# Altium schematic symbol library Schlib1.SchLib: 14 symbols
Pins are listed as number, name and electrical type; pins without a type are passive.

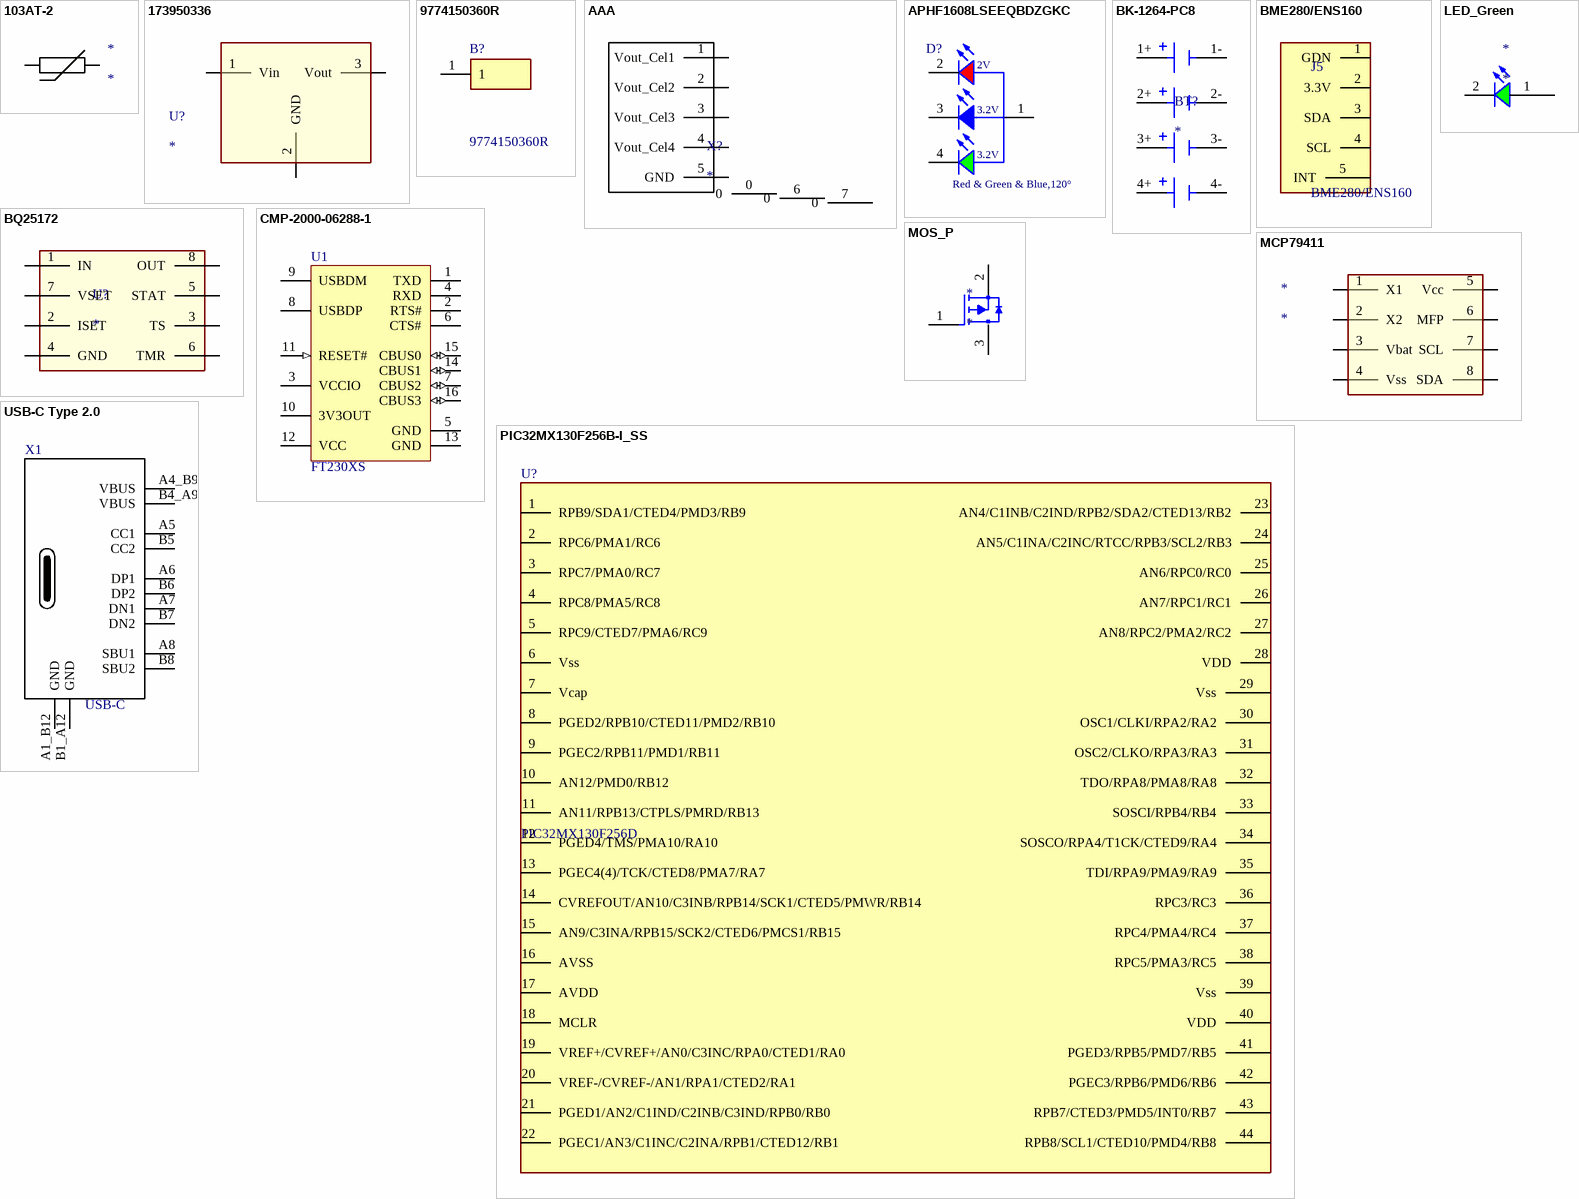
[diagram p0: symbols 103AT-2 to USB-C Type 2.0]

## 103AT-2
designator *
pins: 1 0, 2 0

## 173950336
designator U?
DC DC CONVERTER 3.3V
pins: 1 Vin, 2 GND, 3 Vout

## 9774150360R
designator B?
Round Standoff Threaded M3x0.5 Steel 0.591" (15.00mm); Manufacturer_Name: Wurth Elektronik; Geometry.Height: 15.1mm; Mouser Part Number: 710-9774150360R; Mouser Price/Stock: https://www.mouser.co.uk/ProductDetail/Wurth-Elektronik/9774150360R?qs=wM4AZDOQ8I5QNxLnJ7BYbw%3D%3D; Manufacturer_Part_Number: 9774150360R; Datasheet Link: https://www.we-online.com/katalog/datasheet/9774150360R.pdf
footprint 9774150360R
pins: 1

## AAA
designator X?
Connecteur pour support pile
pins: 0, 1 Vout_Cel1, 2 Vout_Cel2, 3 Vout_Cel3, 4 Vout_Cel4, 5 GND, 6 0, 7 0

## APHF1608LSEEQBDZGKC
designator D?, comment Red & Green & Blue,120°
DEL standard - CMS RGB 0603 SMD; Part Number: 150066M153000; Forward Voltage: 3.3 V@Blue, 3.3 V@Green, 2 V@Red; Peak Wavelength: 468 nm@Blue, 520 nm@Green, 632 nm@Red; Dominant Wavelength: 470 nm@Blue, 525 nm@Green, 624 nm@Red; Luminous Intensity: 180 mcd@Blue, 900 mcd@Green, 285 mcd@Red; ComponentLink1Description: Manufacturer; ComponentLink1URL: http://www.we-online.de; ComponentLink2Description: Datasheet; ComponentLink2URL: http://katalog.we-online.de/led/datasheet/150066M153000.pdf; Published Date: May 2018; Publisher: Wurth Elektronik; Size: 0606; Viewing Angle: 120°; Operating Temperature: -40 to 85 degC; Emitting Color: Red & Green & Blue; Mounting Technology: SMT
footprint 150066M153000
pins: 1, 2 RED, 3 BLUE, 4 GREEN
text: 2V; 3.2V

## BK-1264-PC8
designator BT?
Battery Holder (Open) AAA 4 Cell PC Pin; MP: BK-1264-PC8; Package: None; Price: None; Value: *; Availability: Unavailable
footprint BAT_BK-1264-PC8
pins: 1+, 1-, 2+, 2-, 3+, 3-, 4+, 4-

## BME280/ENS160
designator J5
CCS811 kit; Manufacturer_Name: Amphenol; Manufacturer_Part_Number: 68604-804HLF; Datasheet Link: https://componentsearchengine.com/Datasheets/1/68604-804HLF.pdf; Height: 12.39mm; Mouser2 Part Number: 649-68604-804HLF; Mouser2 Price/Stock: https://www.mouser.com/Search/Refine.aspx?Keyword=649-68604-804HLF
footprint SEN-14193
pins: 1 GDN, 2 3.3V, 3 SDA, 4 SCL, 5 INT

## BQ25172
designator U?
Linear Battery Charger for 1- to 6-Cell NiMH Batteries; ComponentLink1Description: Datasheet; ComponentLink1URL: https://www.ti.com/lit/ds/symlink/bq25172.pdf?ts=1723181325396&ref_url=https%253A%252F%252Fwww.ti.com%252Fproduct%252FBQ25172%253Fbm-verify%253DAAQAAAAJ_____wF_Ss5Mx06KPY5wuR_GF74KlZYjgF463_PIRlVM87DaDimX8hD-z5276A7B4TIBZX0NkuoKNaHBi_BIZQjDV1LkEa4XRsG8u1VR9BofVYTDsa9KgQteCP0sYfXOG9XXdaIOCU4KV78p5I1mhsmEOew16_50esNWIwSvDA3hHiIVf5i8-2P7KThDd6J7Jl4hgoO4l1TC-NrfqnpFAYdm-pJ9AU9Ln766c7PomkWTcyYO1H9qEKlA_yTBE6jjSW5w3O45YuJnRCFg0pGldNq3fYTHPtlSH1bEqJ5IycH_AYGXDBQnkfkbRS1wfv-ZE-mPqIHZclsKyH4WNfY1MM8vqArrSoJICNJdn9XZRI90A8FZbu-ed-N5SM80SaNCRuUgfrfBEdcsRTe5V1SxlZb-1CspPmd3
pins: 1 IN, 2 ISET, 3 TS, 4 GND, 5 STAT, 6 TMR, 7 VSET, 8 OUT

## CMP-2000-06288-1
designator U1, comment FT230XS
USB to Basic UART IC, 2.97 to 5.5 V, -40 to 85 degC, 16-Pin SSOP, RoHS; Manufacturer: FTDI; Data Rate: 3Mbaud; USB Standard: USB2.0; USB Type: Transceiver; No. of Pins: 16Pins; Supply Voltage Max: 5.5V; SVHC: NoSVHC(17-Dec-2015); Supply Voltage Min: 2.97V; MSL: MSL3-168hours; Datasheet Version: Rev. 1.4, 05/2016; Interface Case Style: SSOP; Datasheet URL: http://www.ftdichip.com/Support/Documents/DataSheets/ICs/DS_FT230X.pdf; Packaging: CutTape; Package Description: 16-Pin Shrink Small Outline Package Integrated Circuit, Body 4.9 x 3.9 mm, Pitch 0.635 mm; Operating Temperature Min: -40°C; Mounting Technology: SurfaceMount; Package Reference: SSOP-16; Manufacturer URL: http://www.ftdichip.com/; Product Range: -; Operating Temperature Max: 85°C; No. of Ports: -; Supplier: Digikey; Supplier Ref.: 768-1135-1-ND; Supplier min. qty: 1; Supplier unit price: 2.00; ComponentLink1Description: distributeur; ComponentLink1URL: https://www.mouser.ch/ProductDetail/FTDI/FT230XS-R?qs=Gp1Yz1mis3XyCLeYOseSng%3D%3D; ComponentLink2Description: Datasheet; ComponentLink2URL: https://www.mouser.ch/datasheet/2/163/DS_FT230X-5395.pdf
footprint FTDI-SSOP-16_L (SOP, 16-Leads, Body 5x4mm, Pitch 0.635mm, IPC High Density)
footprint FTDI-SSOP-16_M (SOP, 16-Leads, Body 5x4mm, Pitch 0.635mm, IPC Low Density)
footprint FTDI-SSOP-16_N (SOP, 16-Leads, Body 5x4mm, Pitch 0.635mm, IPC Medium Density)
pins: 1 TXD "Transmit Asynchronous Data Output.", 2 RTS# "Request to Send Control Output / Handshake Signal.", 3 VCCIO (power) "1V8 - 3V3 supply for the IO cells", 4 RXD "Receiving Asynchronous Data Input.", 5 GND (power) "0V Ground input.", 6 CTS# "Clear To Send Control Input / Handshake Signal.", 7 CBUS2 (io) "Configurable CBUS I/O Pin.", 8 USBDP "USB Data Signal Plus.", 9 USBDM "USB Data Signal Minus.", 10 3V3OUT (power) "3V3 output at 50mA. May be used to power VCCIO.", 11 RESET# (in) "Reset input (active low).", 12 VCC (power) "5 V (or 3V3) supply to IC", 13 GND (power) "0V Ground input.", 14 CBUS1 (io) "Configurable CBUS I/O Pin.", 15 CBUS0 (io) "Configurable CBUS I/O Pin.", 16 CBUS3 (io) "Configurable CBUS I/O Pin."

## LED_Green
designator *
pins: 1 0, 2

## MCP79411
designator *
RTC
pins: 1 X1, 2 X2, 3 Vbat, 4 Vss, 5 Vcc, 6 MFP, 7 SCL, 8 SDA

## MOS_P
designator *
pins: 1 G, 2 S, 3 D

## PIC32MX130F256B-I_SS
designator U?, comment PIC32MX130F256D
Integrated Circuit; Manufacturer_Name: Microchip; Manufacturer_Part_Number: PIC32MX130F256D-50I/PT; Datasheet Link: https://www.mouser.ch/datasheet/2/268/PIC32MX1XX2XX283644_PIN_Datasheet_DS60001168L-3443206.pdf; Height: 2mm; Mouser Part Number: 579-MX130F256D50IPT; Mouser Price/Stock: https://www.mouser.com/Search/Refine.aspx?Keyword=579-MX130F256BISS; RS Part Number: 8806720P; RS Price/Stock: http://uk.rs-online.com/web/p/products/8806720P
pins: 1 RPB9/SDA1/CTED4/PMD3/RB9, 2 RPC6/PMA1/RC6, 3 RPC7/PMA0/RC7, 4 RPC8/PMA5/RC8, 5 RPC9/CTED7/PMA6/RC9, 6 Vss, 7 Vcap, 8 PGED2/RPB10/CTED11/PMD2/RB10, 9 PGEC2/RPB11/PMD1/RB11, 10 AN12/PMD0/RB12, 11 AN11/RPB13/CTPLS/PMRD/RB13, 12 PGED4/TMS/PMA10/RA10, 13 PGEC4(4)/TCK/CTED8/PMA7/RA7, 14 CVREFOUT/AN10/C3INB/RPB14/SCK1/CTED5/PMWR/RB14, 15 AN9/C3INA/RPB15/SCK2/CTED6/PMCS1/RB15, 16 AVSS, 17 AVDD, 18 MCLR, 19 VREF+/CVREF+/AN0/C3INC/RPA0/CTED1/RA0, 20 VREF-/CVREF-/AN1/RPA1/CTED2/RA1, 21 PGED1/AN2/C1IND/C2INB/C3IND/RPB0/RB0, 22 PGEC1/AN3/C1INC/C2INA/RPB1/CTED12/RB1, 23 AN4/C1INB/C2IND/RPB2/SDA2/CTED13/RB2, 24 AN5/C1INA/C2INC/RTCC/RPB3/SCL2/RB3, 25 AN6/RPC0/RC0, 26 AN7/RPC1/RC1, 27 AN8/RPC2/PMA2/RC2, 28 VDD, 29 Vss, 30 OSC1/CLKI/RPA2/RA2, 31 OSC2/CLKO/RPA3/RA3, 32 TDO/RPA8/PMA8/RA8, 33 SOSCI/RPB4/RB4, 34 SOSCO/RPA4/T1CK/CTED9/RA4, 35 TDI/RPA9/PMA9/RA9, 36 RPC3/RC3, 37 RPC4/PMA4/RC4, 38 RPC5/PMA3/RC5, 39 Vss, 40 VDD, 41 PGED3/RPB5/PMD7/RB5, 42 PGEC3/RPB6/PMD6/RB6, 43 RPB7/CTED3/PMD5/INT0/RB7, 44 RPB8/SCL1/CTED10/PMD4/RB8

## USB-C Type 2.0
designator X1, comment USB-C
U262-161N-4BVC11; ComponentLink1Description: LCSC  C319148; ComponentLink1URL: https://lcsc.com/product-detail/USB-Connectors_XKB-Connectivity-U262-161N-4BVC11_C319148.html; Supplier 1: LCSC; Supplier Part Number 1: C319148; ComponentLink2Description: Datasheet; ComponentLink2URL: https://eu.mouser.com/datasheet/2/837/Global_Connector_Technology_usb4105-3106202.pdf; ComponentLink3Description: distributeur; ComponentLink3URL: https://eu.mouser.com/ProductDetail/GCT/USB4105-GF-A?qs=KUoIvG%2F9IlY%2FMLlBMpStpA%3D%3D
footprint GCT_USB4105-GF-A
pins: A1_B12 GND, A4_B9 VBUS, A5 CC1, A6 DP1, A7 DN1, A8 SBU1, B1_A12 GND, B4_A9 VBUS, B5 CC2, B6 DP2, B7 DN2, B8 SBU2